# Altium footprint library RcMPPTLib.PcbLib: 59 footprints (part 2 of 4)
Each footprint in its own frame and in the unit in brackets; x right, y up, seen from the top. Pads: shape width x height; smd on the part's side, far side on the other; paste and mask are expansions set on the pad; w line width, h text height; cw(c..) or ccw(c..) is an arc to the next point about the centre after c.
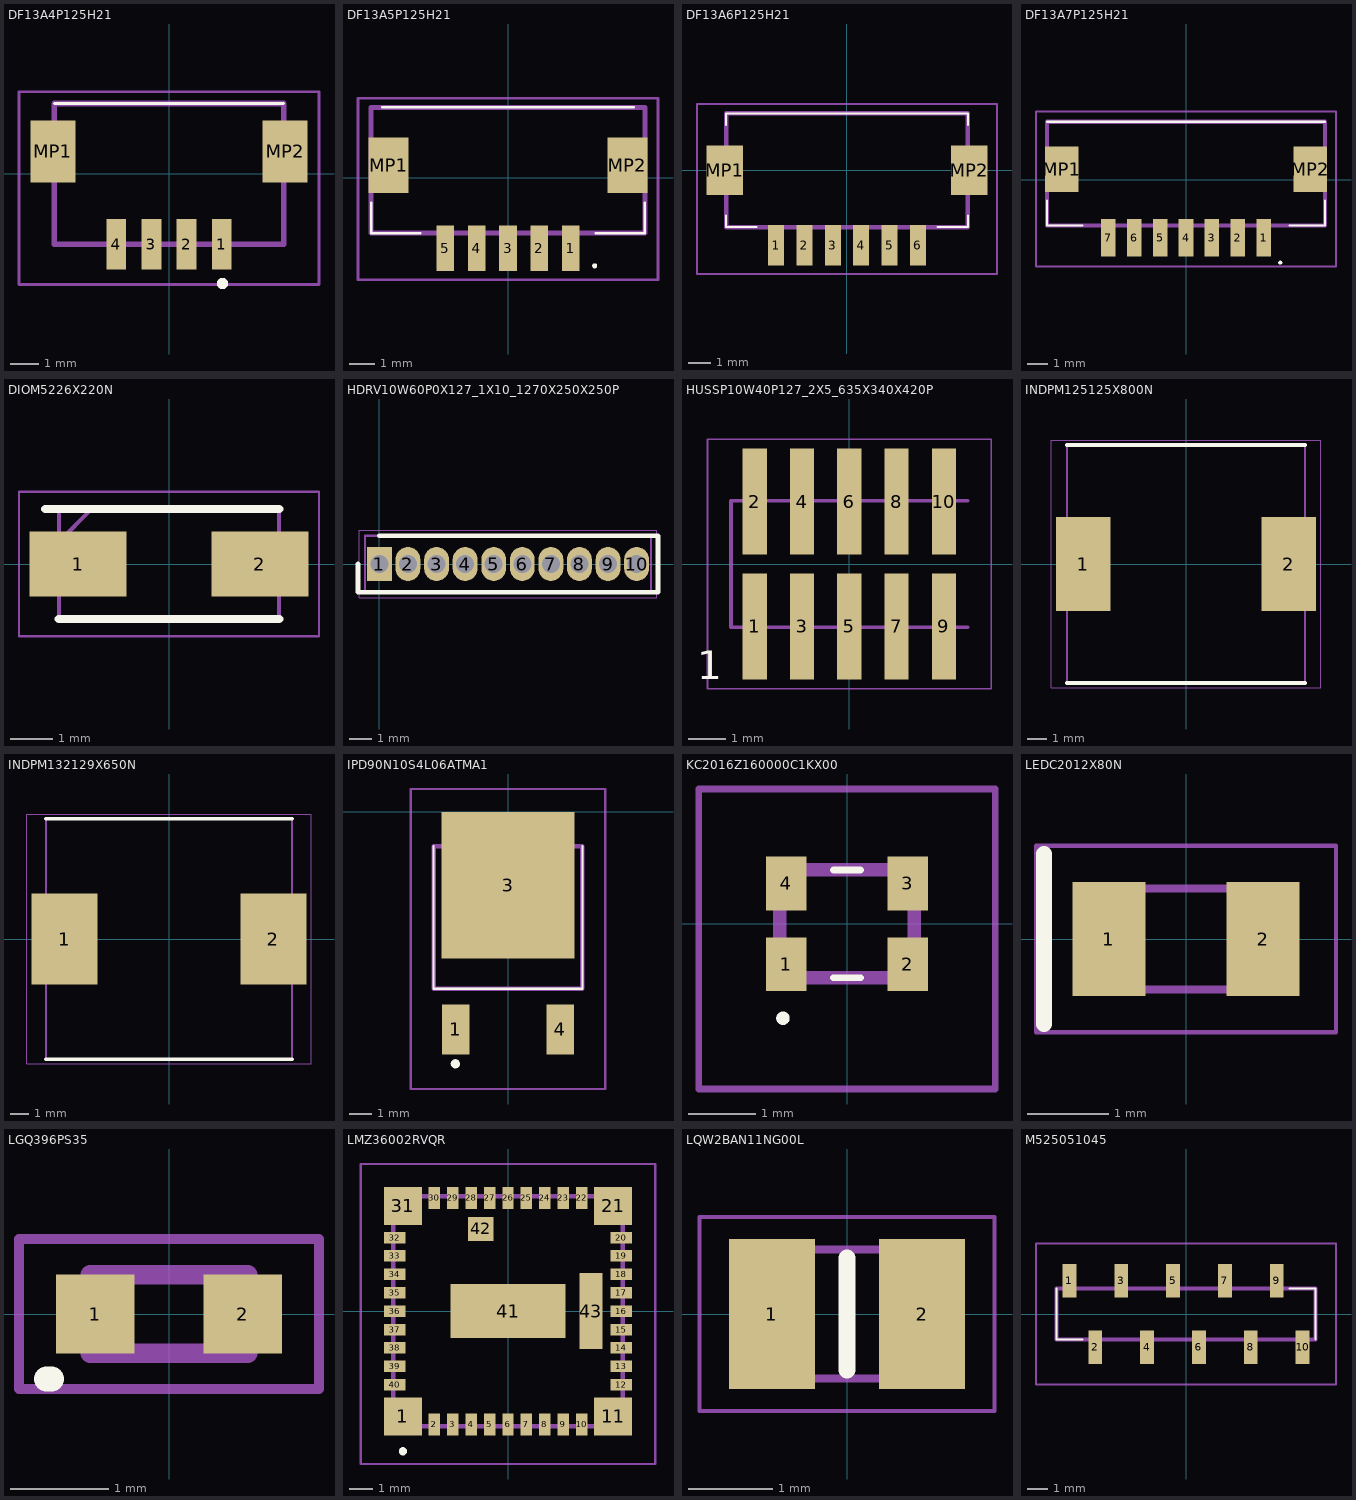
[diagram p1: the footprints below, top view; thin cyan lines are the x and y axes]

## DF13A4P125H21 [mm]
pads (6):
  rect 0.7x1.8 smd: 1(1.875,-2.5) 2(0.625,-2.5) 3(-0.625,-2.5) 4(-1.875,-2.5)
  rect 1.6x2.2 smd: MP1(-4.125,0.8) MP2(4.125,0.8)
Top Overlay:
  lines w0.1: -4.075,2.5 4.075,2.5
  lines w0.2: 1.9,-4 cw(c1.9,-3.9) 1.9,-3.8 cw(c1.9,-3.9) 1.9,-4
Mechanical 13:
  lines w0.2: -4.075,-2.5 4.075,-2.5 4.075,2.5 -4.075,2.5 -4.075,-2.5
Mechanical 15:
  lines w0.1: -5.334,-3.937 5.334,-3.937 5.334,2.921 -5.334,2.921 -5.334,-3.937
3D body "DF13A-4P-1.25H_21_.stp": height 3.7, standoff 0, extent -4.765,-3.33 4.765,2.5

## DF13A5P125H21 [mm]
pads (7):
  rect 0.7x1.8 smd: 1(2.5,-2.8) 2(1.25,-2.8) 3(0,-2.8) 4(-1.25,-2.8) 5(-2.5,-2.8)
  rect 1.6x2.2 smd: MP1(-4.75,0.5) MP2(4.75,0.5)
Top Overlay:
  lines w0.1: -5.45,-1 -5.45,-2.2 -3.5,-2.2 ; -5,2.8 5,2.8 ; 3.5,-2.2 5.45,-2.2 5.45,-1 ; 3.4,-3.5 ccw(c3.45,-3.5) 3.5,-3.5 ccw(c3.45,-3.5) 3.4,-3.5
Mechanical 13:
  lines w0.2: -5.45,-2.2 -5.45,2.8 5.45,2.8 5.45,-2.2 -5.45,-2.2
Mechanical 15:
  lines w0.1: -5.969,-4.064 -5.969,3.175 5.969,3.175 5.969,-4.064 -5.969,-4.064
3D body "DF13A-5P-1.25H_21_.stp": height 3.85, standoff 0, extent -5.45,-3.63 5.45,2.8

## DF13A6P125H21 [mm]
pads (8):
  rect 0.7x1.8 smd: 1(-3.125,-3.3) 2(-1.875,-3.3) 3(-0.625,-3.3) 4(0.625,-3.3) 5(1.875,-3.3) 6(3.125,-3.3)
  rect 1.6x2.2 smd: MP1(-5.375,0) MP2(5.375,0)
Top Overlay:
  lines w0.1: -5.325,-2 -5.325,-2.5 -4,-2.5 ; -5.325,2 -5.325,2.5 5.325,2.5 5.325,2 ; 4,-2.5 5.325,-2.5 5.325,-2
Mechanical 13:
  lines w0.2: -5.325,-2.5 5.325,-2.5 5.325,2.5 -5.325,2.5 -5.325,-2.5
Mechanical 15:
  lines w0.1: -6.604,-4.572 6.604,-4.572 6.604,2.921 -6.604,2.921 -6.604,-4.572
3D body "DF13A-6P-1.25H_21_.stp": height 3.85, standoff 0, extent -6.015,-4.13 6.015,2.5

## DF13A7P125H21 [mm]
pads (9):
  rect 0.7x1.8 smd: 1(3.75,-2.8) 2(2.5,-2.8) 3(1.25,-2.8) 4(0,-2.8) 5(-1.25,-2.8) 6(-2.5,-2.8) 7(-3.75,-2.8)
  rect 1.6x2.2 smd: MP1(-6,0.5) MP2(6,0.5)
Top Overlay:
  lines w0.1: -6.7,-1 -6.7,-2.2 -5,-2.2 ; -6.7,2.8 6.7,2.8 ; 5,-2.2 6.7,-2.2 6.7,-1 ; 4.5,-4 ccw(c4.55,-4) 4.6,-4 ccw(c4.55,-4) 4.5,-4
Mechanical 13:
  lines w0.2: -6.7,-2.2 6.7,-2.2 6.7,2.8 -6.7,2.8 -6.7,-2.2
Mechanical 15:
  lines w0.1: -7.239,-4.191 7.239,-4.191 7.239,3.302 -7.239,3.302 -7.239,-4.191
3D body "DF13A-7P-1.25H_21_.stp": height 3.85, standoff 0, extent -6.7,-3.63 6.7,2.8

## DIOM5226X220N [mm]
pads (2):
  rect 2.3x1.55 smd: 1(-2.15,0) 2(2.15,0)
Top Overlay:
  lines w0.2: -2.925,1.302 2.605,1.302 ; -2.605,-1.302 2.605,-1.302
Mechanical 13:
  lines w0.1: -2.605,0.528 -1.83,1.302 ; -2.605,-1.302 -2.605,1.302 2.605,1.302 2.605,-1.302 -2.605,-1.302
Mechanical 15:
  lines w0.05: -3.55,-1.71 -3.55,1.71 3.55,1.71 3.55,-1.71 -3.55,-1.71
3D body "MBRA120ET3G.stp": height 2.2, standoff 0, extent -2.605,-1.302 2.605,1.302

## HDRV10W60P0X127_1X10_1270X250X250P [mm]
pads (10):
  rect 1.1x1.5 hole 0.8: 1(0,0)
  oval 1.1x1.5 hole 0.8: 2(1.27,0) 3(2.54,0) 4(3.81,0) 5(5.08,0) 6(6.35,0) 7(7.62,0) 8(8.89,0) 9(10.16,0) 10(11.43,0)
Top Overlay:
  lines w0.2: -0.95,0 -0.95,-1.25 12.38,-1.25 12.38,1.25 0,1.25
Top Solder:
  lines w0.9: 0,0 11.43,0
Bottom Solder:
  lines w0.9: 0,0 11.43,0
Mechanical 13:
  lines w0.1: -0.635,-1.25 -0.635,1.25 12.065,1.25 12.065,-1.25 -0.635,-1.25
Mechanical 15:
  lines w0.05: -0.885,-1.5 -0.885,1.5 12.315,1.5 12.315,-1.5 -0.885,-1.5
3D body "M52-040023V1045.stp": height 2.5, standoff -2.3, extent -0.635,-1.25 12.065,1.25

## HUSSP10W40P127_2X5_635X340X420P [mm]
pads (10):
  rect 0.65x2.85 smd: 1(-2.54,-1.675) 2(-2.54,1.675) 3(-1.27,-1.675) 4(-1.27,1.675) 5(0,-1.675) 6(0,1.675) 7(1.27,-1.675) 8(1.27,1.675) 9(2.54,-1.675) 10(2.54,1.675)
Top Overlay:
  text "1" at -4.089,-3.099 h0.76
Mechanical 13:
  lines w0.1: 3.175,-1.7 -3.175,-1.7 -3.175,1.7 3.175,1.7
Mechanical 15:
  lines w0.05: -3.81,-3.35 3.81,-3.35 3.81,3.35 -3.81,3.35 -3.81,-3.35
3D body "M50-3600542R.stp": height 5.13, standoff 0, extent -3.325,-2.75 3.325,2.75

## INDPM125125X800N [mm]
pads (2):
  rect 2.85x4.95 smd: 1(-5.4,0) 2(5.4,0)
Top Overlay:
  lines w0.2: -6.25,-6.25 6.25,-6.25 ; -6.25,6.25 6.25,6.25
Mechanical 13:
  lines w0.1: -6.25,-6.25 6.25,-6.25 6.25,6.25 -6.25,6.25 -6.25,-6.25
Mechanical 15:
  lines w0.05: -7.075,-6.5 7.075,-6.5 7.075,6.5 -7.075,6.5 -7.075,-6.5
3D body "DR127-1R0-R.stp": height 8, standoff 0, extent -6.25,-6.25 6.25,6.25

## INDPM132129X650N [mm]
pads (2):
  rect 3.55x4.9 smd: 1(-5.6,0) 2(5.6,0)
Top Overlay:
  lines w0.2: -6.6,-6.45 6.6,-6.45 ; -6.6,6.45 6.6,6.45
Mechanical 13:
  lines w0.1: -6.6,-6.45 6.6,-6.45 6.6,6.45 -6.6,6.45 -6.6,-6.45
Mechanical 15:
  lines w0.05: -7.625,-6.7 7.625,-6.7 7.625,6.7 -7.625,6.7 -7.625,-6.7
3D body "IHLP5050FDER2R2M01.stp": height 6.29, standoff 0, extent -6.683,-6.381 6.682,6.375

## IPD90N10S4L06ATMA1 [mm]
pads (3):
  rect 1.2x2.2 smd: 1(-2.28,-9.5) 4(2.28,-9.5)
  rect 5.8x6.4 smd: 3(0,-3.2)
Top Overlay:
  lines w0.1: -3.25,-1.5 -3.25,-7.72 3.25,-7.72 3.25,-1.5
  lines w0.2: -2.4,-11 ccw(c-2.3,-11) -2.2,-11 ccw(c-2.3,-11) -2.4,-11
Mechanical 13:
  lines w0.2: -3.25,-7.72 3.25,-7.72 3.25,-1.5 -3.25,-1.5 -3.25,-7.72
Mechanical 15:
  lines w0.1: -4.25,-12.1 4.25,-12.1 4.25,1 -4.25,1 -4.25,-12.1
3D body "TO-252AA-IRF.stp": height 2.39, standoff 0, extent -3.356,-10.033 3.356,0.381

## KC2016Z160000C1KX00 [mm]
pads (4):
  rect 0.6x0.8 smd: 1(-0.9,-0.6) 2(0.9,-0.6) 3(0.9,0.6) 4(-0.9,0.6)
Top Overlay:
  lines w0.1: -0.2,-0.8 0.2,-0.8 ; -0.2,0.8 0.2,0.8 ; -1,-1.4 cw(c-0.95,-1.4) -0.9,-1.4 cw(c-0.95,-1.4) -1,-1.4
Mechanical 13:
  lines w0.2: -1,-0.8 -1,0.8 1,0.8 1,-0.8 -1,-0.8
Mechanical 15:
  lines w0.1: -2.2,-2.45 -2.2,2 2.2,2 2.2,-2.45 -2.2,-2.45
3D body "KC2016Z16.0000C1KX00.stp": height 1.1, standoff 0, extent -1.14,-0.94 1.14,0.94

## LEDC2012X80N [mm]
pads (2):
  rect 0.9x1.4 smd: 1(-0.95,0) 2(0.95,0)
Top Overlay:
  lines w0.2: -1.75,-1.05 -1.75,1.05
Mechanical 13:
  lines w0.1: -1,0.208 -0.583,0.625 ; -1,-0.625 1,-0.625 1,0.625 -1,0.625 -1,-0.625
Mechanical 15:
  lines w0.05: -1.85,-1.15 1.85,-1.15 1.85,1.15 -1.85,1.15 -1.85,-1.15

## LGQ396PS35 [mm]
pads (2):
  rect 0.8x0.8 smd: 1(-0.75,0) 2(0.75,0)
Top Overlay:
  lines w0.254: -1.245,-0.66 -1.194,-0.66
Mechanical 13:
  lines w0.2: -0.8,-0.4 -0.8,0.4 0.8,0.4 0.8,-0.4 -0.8,-0.4
Mechanical 15:
  lines w0.1: -1.524,-0.762 -1.524,0.762 1.524,0.762 1.524,-0.762 -1.524,-0.762
3D body "LG_Q396-PS-35.stp": height 0.5, standoff 0, extent -0.8,-0.4 0.8,0.4

## LMZ36002RVQR [mm]
pads (43):
  rect 1.65x1.65 smd: 1(-4.575,-4.575) 11(4.575,-4.575) 21(4.575,4.575) 31(-4.575,4.575)
  rect 0.5x0.95 smd: 2(-3.2,-4.925) 3(-2.4,-4.925) 4(-1.6,-4.925) 5(-0.8,-4.925) 6(0,-4.925) 7(0.8,-4.925) 8(1.6,-4.925) 9(2.4,-4.925) 10(3.2,-4.925) 22(3.2,4.925) 23(2.4,4.925) 24(1.6,4.925) 25(0.8,4.925) 26(0,4.925) 27(-0.8,4.925) 28(-1.6,4.925) 29(-2.4,4.925) 30(-3.2,4.925)
  rect 0.95x0.5 smd: 12(4.925,-3.2) 13(4.925,-2.4) 14(4.925,-1.6) 15(4.925,-0.8) 16(4.925,0) 17(4.925,0.8) 18(4.925,1.6) 19(4.925,2.4) 20(4.925,3.2) 32(-4.925,3.2) 33(-4.925,2.4) 34(-4.925,1.6) 35(-4.925,0.8) 36(-4.925,0) 37(-4.925,-0.8) 38(-4.925,-1.6) 39(-4.925,-2.4) 40(-4.925,-3.2)
  rect 5x2.35 smd: 41(0,0)
  rect 1.12x1.05 smd: 42(-1.187,3.575)
  rect 1x3.3 smd: 43(3.6,0)
Top Overlay:
  lines w0.25: -4.622,-6.096 cw(c-4.572,-6.096) -4.522,-6.096 cw(c-4.572,-6.096) -4.622,-6.096
Mechanical 13:
  lines w0.2: -5,-5 5,-5 5,5 -5,5 -5,-5
Mechanical 15:
  lines w0.1: -6.4,-6.65 6.4,-6.65 6.4,6.4 -6.4,6.4 -6.4,-6.65
3D body "LMZ36002RVQT.stp": height 2.23, standoff 0, extent -5,-5 5,5

## LQW2BAN11NG00L [mm]
pads (2):
  rect 1.02x1.78 smd: 1(-0.89,0) 2(0.89,0)
Top Overlay:
  lines w0.2: 0,-0.665 0,0.665
Mechanical 13:
  lines w0.1: -1.045,-0.765 1.045,-0.765 1.045,0.765 -1.045,0.765 -1.045,-0.765
Mechanical 15:
  lines w0.05: -1.75,-1.15 1.75,-1.15 1.75,1.15 -1.75,1.15 -1.75,-1.15
3D body "LQW2BAS39NJ00L.stp": height 1.52, standoff 0, extent -1.045,-0.765 1.045,0.765

## M525051045 [mm]
pads (10):
  rect 0.68x1.65 smd: 1(-5.715,1.625) 2(-4.445,-1.625) 3(-3.175,1.625) 4(-1.905,-1.625) 5(-0.635,1.625) 6(0.635,-1.625) 7(1.905,1.625) 8(3.175,-1.625) 9(4.445,1.625) 10(5.715,-1.625)
Top Overlay:
  lines w0.1: -6.35,1.25 -6.35,-1.25 -5.08,-1.25 ; 5.08,1.25 6.35,1.25 6.35,-1.25
Mechanical 13:
  lines w0.2: -6.35,-1.25 -6.35,1.25 6.35,1.25 6.35,-1.25 -6.35,-1.25
Mechanical 15:
  lines w0.1: -7.35,-3.45 -7.35,3.45 7.35,3.45 7.35,-3.45 -7.35,-3.45
3D body "M52-5051045.stp": height 5.8, standoff 0, extent -6.35,-2.382 6.35,2.382